# Altium schematic symbol library SCH - POWER - LINEAR VREG - TI LM317MQ_DCY_4.SchLib: 1 symbol
Pins are listed as number, name and electrical type; pins without a type are passive.

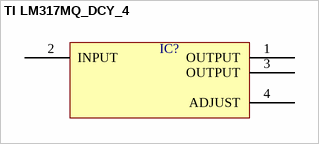
[diagram p0: symbol TI LM317MQ_DCY_4]

## TI LM317MQ_DCY_4
designator IC?  (value not drawn)
pins: 1 OUTPUT, 2 INPUT, 3 OUTPUT, 4 ADJUST